# Altium integrated library AD9837ACPZ-RL.IntLib: 2 symbols
Pins are listed as number, name and electrical type; pins without a type are passive.

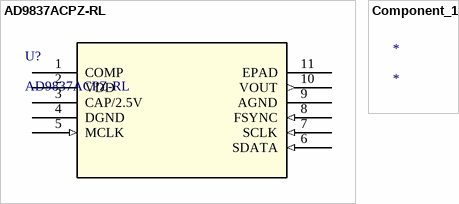
[diagram p0: symbols AD9837ACPZ-RL to Component_1]

## AD9837ACPZ-RL
designator U?
Low Power, 8.5 mW, 2.3 V to 5.5 V, Programmable Waveform Generator; Manufacturer_Name: Analog Devices Inc; Copyright: Copyright (C) 2025 Ultra Librarian. All rights reserved.; Manufacturer_Part_Number: AD9837ACPZ-RL; Datasheet: https://www.analog.com/media/en/technical-documentation/data-sheets/AD9837.PDF; RefDes: RefDes; Type: Type
footprint CP_10_9_ADI
pins: 1 COMP, 2 VDD (power), 3 CAP/2.5V, 4 DGND (power), 5 MCLK (in), 6 SDATA (in), 7 SCLK (in), 8 FSYNC (in), 9 AGND (power), 10 VOUT (out), 11 EPAD

## Component_1
designator *